# Altium footprint library ECS-TXO-5032-120-TR.PcbLib: 2 footprints
Each footprint in its own frame and in the unit in brackets; x right, y up, seen from the top. Pads: shape width x height; smd on the part's side, far side on the other; paste and mask are expansions set on the pad; w line width, h text height; cw(c..) or ccw(c..) is an arc to the next point about the centre after c.
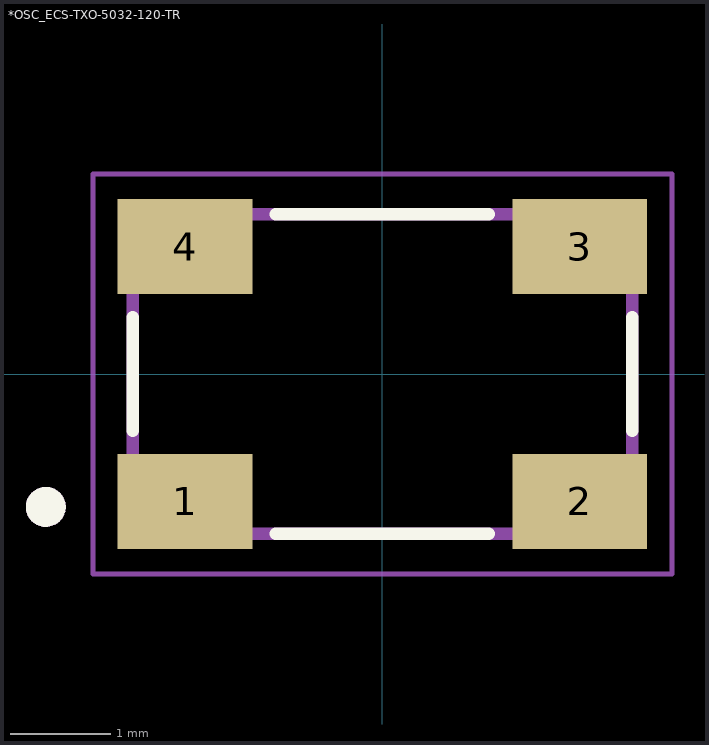
[diagram p0: the footprints below, top view; thin cyan lines are the x and y axes]

## *OSC_ECS-TXO-5032-120-TR [mm]
pads (4):
  rect 1.35x0.95 smd: 1(-1.975,-1.275) 2(1.975,-1.275) 3(1.975,1.275) 4(-1.975,1.275)
Top Overlay:
  circle w0.2: c-3.37,-1.33 r0.1
  lines w0.127: -2.5,-0.565 -2.5,0.565 ; -1.065,-1.6 1.065,-1.6 ; -1.065,1.6 1.065,1.6 ; 2.5,-0.565 2.5,0.565
Mechanical 4:
  circle w0.2: c-3.37,-1.33 r0.1
  circle w0.2: c-3.37,-1.33 r0.1
  lines w0.127: -2.5,-1.6 2.5,-1.6 ; -2.5,-1.6 -2.5,1.6 ; -2.5,-1.6 2.5,-1.6 ; -2.5,-1.6 -2.5,1.6 ; -2.5,1.6 2.5,1.6 ; -2.5,1.6 2.5,1.6 ; 2.5,-1.6 2.5,1.6 ; 2.5,-1.6 2.5,1.6
Mechanical 16:
  lines w0.05: -2.9,-2 -2.9,2 2.9,2 2.9,-2 -2.9,-2

## PCBComponent_1 [mm]